# Altium footprint library HVPSlibrary.PcbLib: 149 footprints (part 3 of 11)
Each footprint in its own frame and in the unit in brackets; x right, y up, seen from the top. Pads: shape width x height; smd on the part's side, far side on the other; paste and mask are expansions set on the pad; w line width, h text height; cw(c..) or ccw(c..) is an arc to the next point about the centre after c.
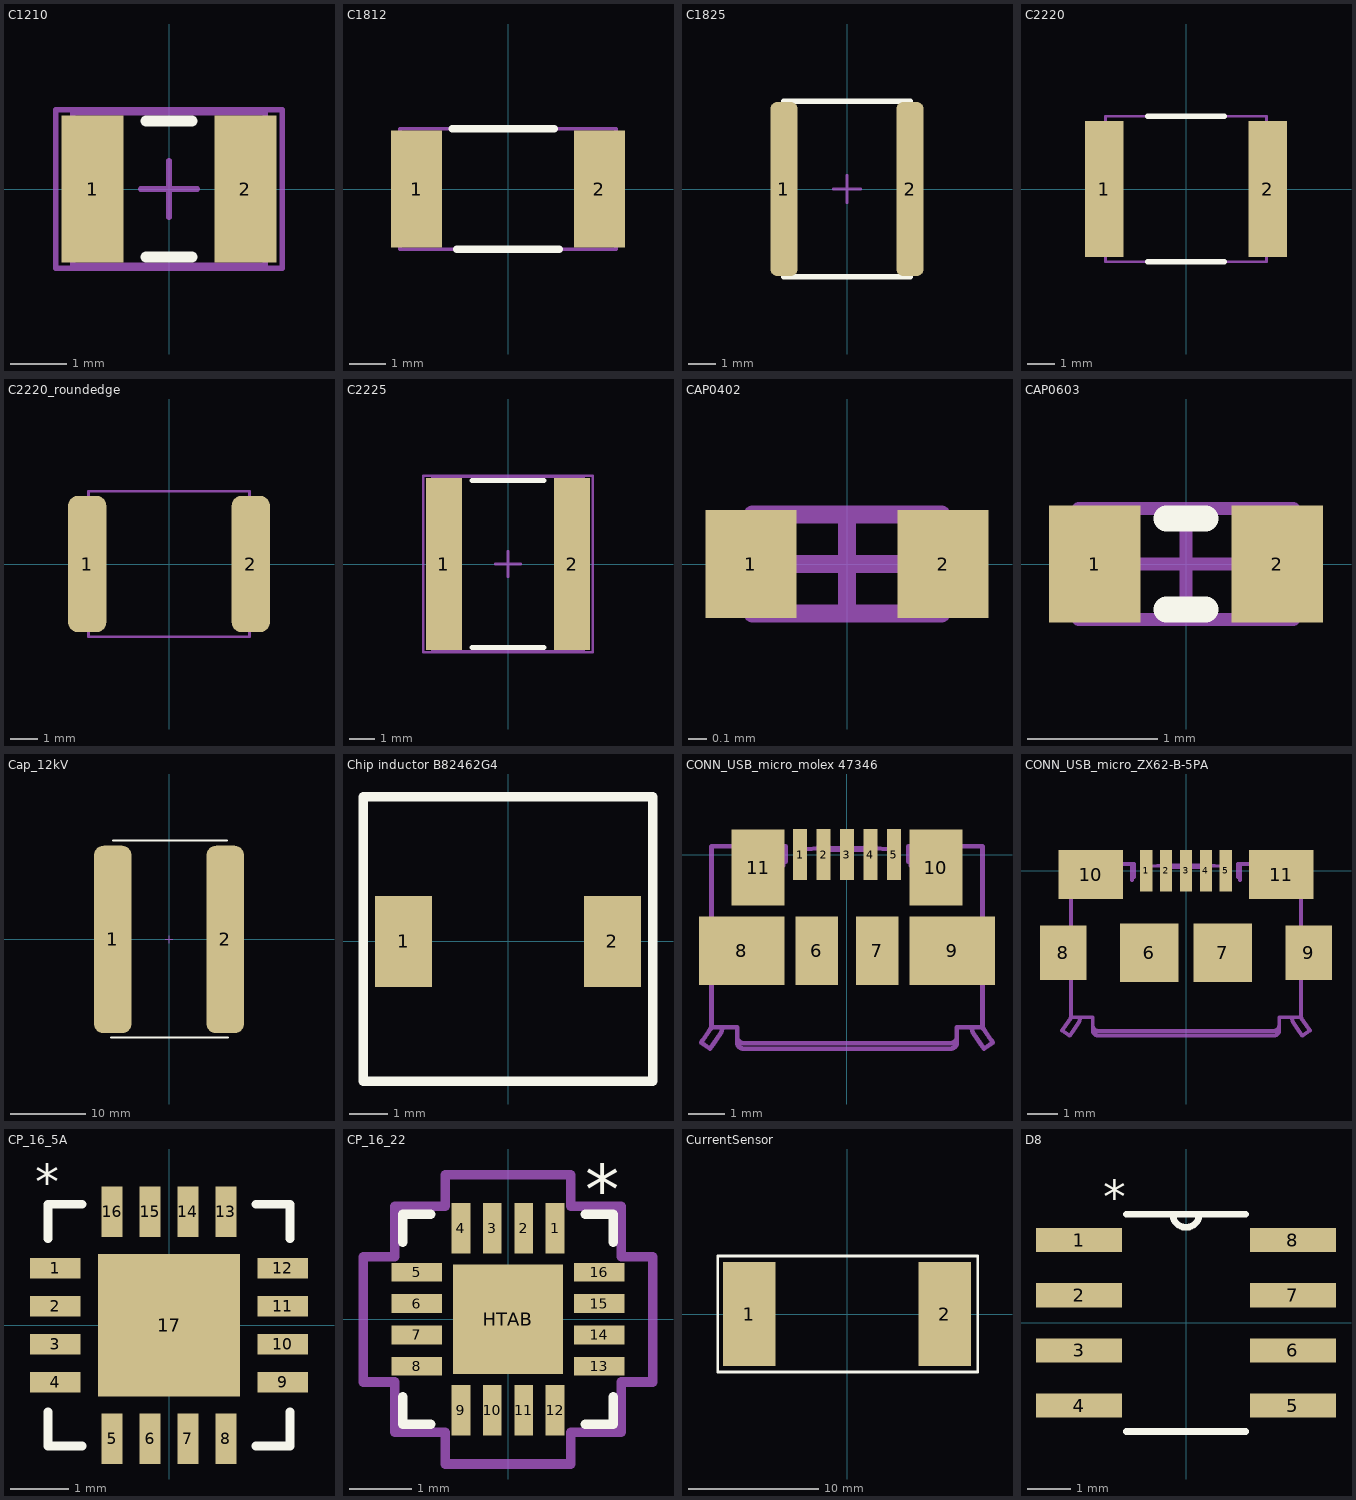
[diagram p2: the footprints below, top view; thin cyan lines are the x and y axes]

## C1210 [mm] "Chip Capacitor, Body 3.2x2.5mm, IPC High Density"
height 1.3
pads (2):
  rect 1.1x2.6 smd: 1(-1.35,0) 2(1.35,0)
Top Overlay:
  lines w0.2: -0.4,-1.2 0.4,-1.2 ; -0.4,1.2 0.4,1.2
Mechanical 13:
  lines w0.1: -1.7,-1.35 -1.7,1.35 1.7,1.35 1.7,-1.35 -1.7,-1.35
Mechanical 15:
  lines w0.1: -0.5,0 0.5,0 ; 0,-0.5 0,0.5 ; -2,-1.4 -2,1.4 2,1.4 2,-1.4 -2,-1.4
3D body: height 1.3, standoff 0, extent -1.7,-1.35 1.7,1.35

## C1812 [mm] "Chip Capacitor, Body 4.5x3.2mm, IPC High Density"
height 1.4
pads (2):
  rect 1.4x3.2 smd: 1(-2.5,0) 2(2.5,0)
Top Overlay:
  lines w0.2: -1.53,1.651 1.27,1.651 ; -1.403,-1.651 1.397,-1.651
Mechanical 13:
  lines w0.1: -2.95,-1.651 -2.95,1.651 2.95,1.651 2.95,-1.651 -2.95,-1.651
3D body: height 2.5, standoff 0, extent -2.921,-1.651 2.921,1.651

## C1825 [mm] "Chip Capacitor, Body 4.6x6.3mm, IPC High Density"
height 1.4
pads (2):
  rrect50% 1x6.35 smd: 1(-2.3,0) 2(2.3,0)
Top Overlay:
  lines w0.2: -2.3,-3.2 2.3,-3.2 ; -2.3,3.2 2.3,3.2
Mechanical 15:
  lines w0.1: -0.5,0 0.5,0 ; 0,-0.5 0,0.5
3D body: height 8.96, standoff -8.96, extent -2.121,-2.667 2.286,2.591

## C2220 [mm] "Chip Capacitor, Body 5.7x5mm, IPC High Density"
height 1.4
pads (2):
  rect 1.4x5 smd: 1(-3,0) 2(3,0)
Top Overlay:
  lines w0.2: -1.403,-2.667 1.397,-2.667 ; -1.403,2.667 1.397,2.667
Mechanical 13:
  lines w0.1: -2.95,-2.667 2.95,-2.667 2.95,2.667 -2.95,2.667 -2.95,-2.667
3D body: height 2.5, standoff 0, extent -2.921,-2.667 2.921,2.667

## C2220_roundedge [mm] "Chip Capacitor, Body 5.7x5mm, IPC High Density"
height 1.4
pads (2):
  rrect50% 1.4x5 smd: 1(-3,0) 2(3,0)
Mechanical 13:
  lines w0.1: -2.95,-2.667 -2.95,2.667 2.95,2.667 2.95,-2.667 -2.95,-2.667
3D body: height 2.5, standoff 0, extent -2.921,-2.667 2.921,2.667

## C2225 [mm] "Chip Capacitor, Body 5.7x6.4mm, IPC High Density"
height 1.4
pads (2):
  rect 1.4x6.7 smd: 1(-2.5,0) 2(2.5,0)
Top Overlay:
  lines w0.2: -1.4,-3.25 1.4,-3.25 ; -1.4,3.25 1.4,3.25
Mechanical 13:
  lines w0.1: -2.95,-3.4 2.95,-3.4 2.95,3.4 -2.95,3.4 -2.95,-3.4
Mechanical 15:
  lines w0.1: -0.5,0 0.5,0 ; 0,-0.5 0,0.5 ; -3.3,-3.45 3.3,-3.45 3.3,3.45 -3.3,3.45 -3.3,-3.45
3D body: height 1.4, standoff 0, extent -2.95,-3.4 2.95,3.4

## CAP0402 [mil] "Chip Capacitor, 2-Leads, Body 1.0x0.5mm, IPC Medium Density"
height 19.68
pads (2):
  rect 20x23.62 smd: 1(-21,0) 2(21,0)
Mechanical 13:
  lines w3.94: -20.67,-10.83 -20.67,10.83 20.67,10.83 20.67,-10.83 -20.67,-10.83
Mechanical 15:
  lines w3.94: -10.83,0 10.83,0 ; 0,-10.83 0,10.83
3D body: height 19.68, standoff 0, extent -20.67,-10.83 20.67,10.83

## CAP0603 [mm] "Chip Capacitor, 2-Leads, Body 1.6x0.8mm, IPC Medium Density"
height 0.8
pads (2):
  rect 0.7x0.9 smd: 1(-0.7,0) 2(0.7,0)
Top Overlay:
  lines w0.2: -0.15,-0.35 0.15,-0.35 ; -0.15,0.35 0.15,0.35
Mechanical 13:
  lines w0.1: -0.825,-0.425 0.825,-0.425 0.825,0.425 -0.825,0.425 -0.825,-0.425
Mechanical 15:
  lines w0.1: -0.425,0 0.425,0 ; 0,-0.425 0,0.425
3D body: height 0.8, standoff 0, extent -0.825,-0.425 0.825,0.425

## Cap_12kV [mm] "Through-hole Capacitor, Body 10x10 mm"
height 15
pads (2):
  rrect50% 5x25 smd: 1(-7.5,0) 2(7.5,0)
Top Overlay:
  lines w0.254: -7.747,-13.081 7.874,-13.081 ; -7.493,13.208 7.747,13.208
Mechanical 15:
  lines w0.1: -0.5,0 0.5,0 ; 0,-0.5 0,0.5
3D body: height 15, standoff 0, extent -6.921,-10.541 7.683,11.049

## Chip inductor B82462G4 [mm]
pads (2):
  rect 1.5x2.4 smd: 1(-2.75,0) 2(2.75,0)
Top Overlay:
  lines w0.254: -3.81,-3.683 3.81,-3.683 3.81,3.81 -3.81,3.81 -3.81,-3.683

## CONN_USB_micro_molex 47346 [mm]
pads (11):
  rect 0.4x1.4 smd: 1(-1.3,0) 2(-0.65,0) 3(0,0) 4(0.65,0) 5(1.3,0)
  rect 1.175x1.9 smd: 6(-0.837,-2.66) 7(0.837,-2.66)
  rect 2.375x1.9 smd: 8(-2.913,-2.66) 9(2.913,-2.66)
  rect 1.475x2.1 smd: 10(2.462,-0.36) 11(-2.462,-0.36)
Mechanical 5:
  drawing of 511 lines, arcs and shapes, not listed
3D body "MicroUSB_473460001.stp": height 2.67, standoff -0.27, extent -3.99,-4.812 3.99,0.618

## CONN_USB_micro_ZX62-B-5PA [mm]
pads (11):
  rect 0.4x1.35 smd: 1(-1.3,0) 2(-0.65,0) 3(0,0) 4(0.65,0) 5(1.3,0)
  rect 1.9x1.9 smd: 6(-1.2,-2.675) 7(1.2,-2.675)
  rect 1.524x1.778 smd: 8(-4,-2.675) 9(4,-2.675)
  rect 2.1x1.6 smd: 10(-3.1,-0.125) 11(3.1,-0.125)
Mechanical 5:
  drawing of 511 lines, arcs and shapes, not listed
3D body: height 2.55, standoff 0.02, extent -3.75,-5.325 3.75,0.175

## CP_16_5A [mil]
pads (17):
  rect 34x14 smd mask+4: 1(-76.5,38.39) 2(-76.5,12.8) 3(-76.5,-12.8) 4(-76.5,-38.39) 9(76.5,-38.39) 10(76.5,-12.8) 11(76.5,12.8) 12(76.5,38.39)
  rect 14x34 smd mask+4: 5(-38.39,-76.5) 6(-12.8,-76.5) 7(12.8,-76.5) 8(38.39,-76.5) 13(38.39,76.5) 14(12.8,76.5) 15(-12.8,76.5) 16(-38.39,76.5)
  rect 96x96 smd mask-47.5: 17(0,0)
Top Overlay:
  lines w6: -81.5,-58.49 -81.5,-81.5 -58.49,-81.5 ; -81.5,58.49 -81.5,81.5 -58.49,81.5 ; 58.49,-81.5 81.5,-81.5 81.5,-58.49 ; 58.49,81.5 81.5,81.5 81.5,58.49
  text "*" at -90,85 h23.62
Top Solder:
  region: -50,50 -50,-50 50,-50 50,50
3D body: height 59.06, standoff 0, extent -80,-80 80,80

## CP_16_22 [mm]
pads (17):
  rect 0.3x0.805 smd: 1(0.75,1.452) 2(0.25,1.452) 3(-0.25,1.452) 4(-0.75,1.452) 9(-0.75,-1.452) 10(-0.25,-1.452) 11(0.25,-1.452) 12(0.75,-1.452)
  rect 0.805x0.3 smd: 5(-1.452,0.75) 6(-1.452,0.25) 7(-1.452,-0.25) 8(-1.452,-0.75) 13(1.452,-0.75) 14(1.452,-0.25) 15(1.452,0.25) 16(1.452,0.75)
  rect 1.75x1.75 smd paste-0.862: HTAB(0,0)
Top Overlay:
  lines w0.152: -1.677,-1.233 -1.677,-1.677 -1.233,-1.677 ; -1.677,1.233 -1.677,1.677 -1.233,1.677 ; 1.233,-1.677 1.677,-1.677 1.677,-1.233 ; 1.233,1.677 1.677,1.677 1.677,1.233
  text "*" at 1.233,1.677 h0.8
Top Paste:
  region: 0.875,0.875 -0.875,0.875 -0.875,-0.875 0.875,-0.875
Mechanical 15:
  lines w0.152: -2.308,-1 -1.804,-1 -1.804,-1.804 -1,-1.804 -1,-2.308 1,-2.308 1,-1.804 1.804,-1.804 1.804,-1 2.308,-1 2.308,1 1.804,1 1.804,1.804 1,1.804 1,2.308 -1,2.308 -1,1.804 -1.804,1.804 -1.804,1 -2.308,1 -2.308,-1
3D body: height 0.8, standoff 0, extent -1.651,-1.651 1.651,1.651

## CurrentSensor [mm]
pads (2):
  rect 4x8 smd: 1(-7.5,0) 2(7.5,0)
Top Overlay:
  lines w0.2: -9.906,-4.445 -9.906,-1.906 -9.906,4.445 10.033,4.445 10.033,-4.445 -9.906,-4.445

## D8 [mil]
pads (8):
  rect 78x22 smd: 1(-97,75) 2(-97,25) 3(-97,-25) 4(-97,-75) 5(97,-75) 6(97,-25) 7(97,25) 8(97,75)
Top Overlay:
  lines w6: -54.08,-98.5 54.08,-98.5 ; -54.08,98.5 54.08,98.5 ; -12,98.5 ccw(c0,98.5) 12,98.5
  text "*" at -75,100 h30
Mechanical 13:
  lines w0: -12,98.5 ccw(c0,98.5) 12,98.5